# Altium schematic symbol library SamacSys.SchLib: 1281 symbols (part 8 of 13)
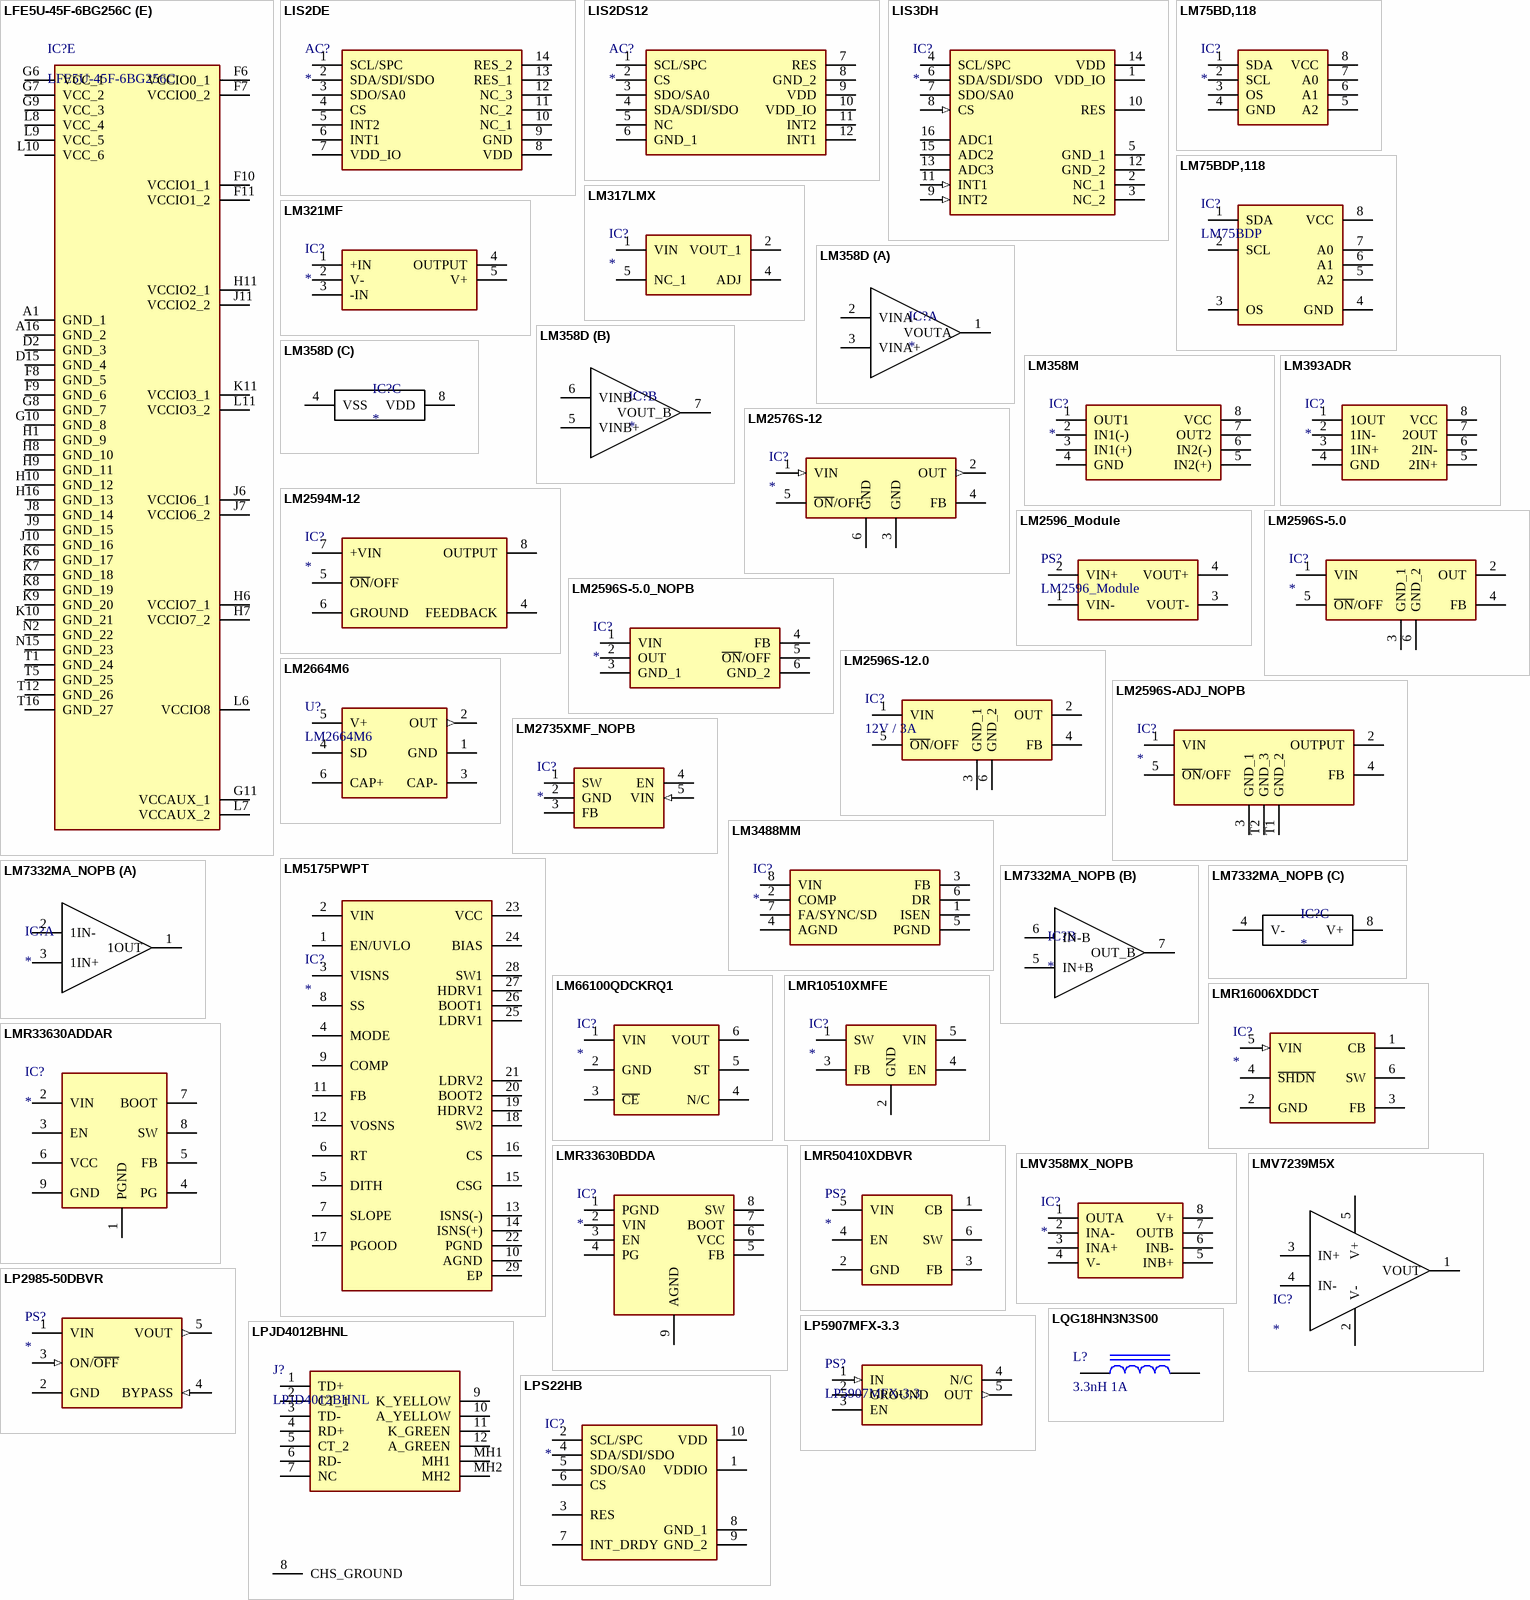
[diagram p54: symbols LFE5U-45F-6BG256C to LQG18HN3N3S00]

## LM75BDP,118
designator IC?, comment LM75BDP
Integrated Circuit; Manufacturer_Name: NXP; Manufacturer_Part_Number: LM75BDP,118; Datasheet Link: http://www.nxp.com/docs/en/data-sheet/LM75B.pdf; Height: 1.1mm; Mouser Part Number: 771-LM75BDP; Mouser Price/Stock: https://www.mouser.co.uk/ProductDetail/NXP-Semiconductors/LM75BDP118?qs=NVaOCIL7CYS15EE%252BCogVfA%3D%3D; Arrow Part Number: LM75BDP,118; Arrow Price/Stock: https://www.arrow.com/en/products/lm75bdp118/nxp-semiconductors?region=nac
footprint SOP65P490X110-8N
pins: 1 SDA, 2 SCL, 3 OS, 4 GND, 5 A2, 6 A1, 7 A0, 8 VCC

## LM317LMX
designator IC?
Integrated Circuit; Manufacturer_Name: onsemi; Manufacturer_Part_Number: LM317LMX; Datasheet Link: https://www.ti.com/lit/ds/symlink/lm317l-n.pdf?HQS=dis-dk-null-digikeymode-dsf-pf-null-wwe&ts=1613971369395; Height: 1.75mm; Mouser Part Number: 512-LM317LMX; Mouser Price/Stock: https://www.mouser.co.uk/ProductDetail/onsemi-Fairchild/LM317LMX?qs=DgZPx0AY41lcVeKBs7y%2FHw%3D%3D; Arrow Part Number: LM317LMX; Arrow Price/Stock: https://www.arrow.com/en/products/lm317lmx/on-semiconductor
footprint SOIC127P600X175-8N; pin to pad 2>2+3+6+7 5>5+8
pins: 1 VIN, 2 VOUT_1, 4 ADJ, 5 NC_1

## LM321MF
designator IC?
Integrated Circuit; Manufacturer_Name: Texas Instruments; Manufacturer_Part_Number: LM321MF/NOPB; Datasheet Link: https://datasheet.datasheetarchive.com/originals/distributors/Datasheets-SFU2/DSASFU100036193.pdf; Height: 1.45mm; Mouser Part Number: 926-LM321MF/NOPB; Mouser Price/Stock: https://www.mouser.co.uk/ProductDetail/Texas-Instruments/LM321MF-NOPB?qs=X1J7HmVL2ZEjaSKPrGsivQ%3D%3D; Arrow Part Number: LM321MF/NOPB; Arrow Price/Stock: https://www.arrow.com/en/products/lm321mfnopb/texas-instruments?region=nac
footprint SOT95P280X145-5N
pins: 1 +IN, 2 V-, 3 -IN, 4 OUTPUT, 5 V+

## LM358D
designator IC?
Integrated Circuit; Manufacturer_Name: Texas Instruments; Manufacturer_Part_Number: LM358D; Datasheet Link: http://www.ti.com/lit/ds/symlink/lm358.pdf; Height: 1.75mm; Mouser Part Number: 595-LM358D; Mouser Price/Stock: https://www.mouser.co.uk/ProductDetail/Texas-Instruments/LM358D?qs=X1HXWTtiZ0RJBM%2FvBfVo8g%3D%3D; Arrow Part Number: LM358D; Arrow Price/Stock: https://www.arrow.com/en/products/lm358d/texas-instruments?region=nac
footprint SOIC127P600X175-8N
part A pins: 1 VOUTA, 2 VINA-, 3 VINA+
part B pins: 5 VINB+, 6 VINB-, 7 VOUT_B
part C pins: 4 VSS, 8 VDD

## LM358M
designator IC?
Integrated Circuit; Manufacturer_Name: onsemi; Manufacturer_Part_Number: LM358M; Datasheet Link: https://www.onsemi.com/pub/Collateral/LM358A-D.pdf; Height: 1.75mm; Mouser Part Number: 512-LM358M; Mouser Price/Stock: https://www.mouser.com/Search/Refine.aspx?Keyword=512-LM358M; Arrow Part Number: LM358M; Arrow Price/Stock: https://www.arrow.com/en/products/lm358m/on-semiconductor
footprint SOIC127P600X175-8N
pins: 1 OUT1, 2 IN1(-), 3 IN1(+), 4 GND, 5 IN2(+), 6 IN2(-), 7 OUT2, 8 VCC

## LM393ADR
designator IC?
Integrated Circuit; Manufacturer_Name: Texas Instruments; Manufacturer_Part_Number: LM393ADR; Datasheet Link: http://www.ti.com/lit/ds/symlink/lm393a.pdf; Height: 1.75mm; Mouser Part Number: 595-LM393ADR; Mouser Price/Stock: https://www.mouser.co.uk/ProductDetail/Texas-Instruments/LM393ADR?qs=VolsR0DjNPq76ZV6Dhd8nQ%3D%3D; Arrow Part Number: LM393ADR; Arrow Price/Stock: https://www.arrow.com/en/products/lm393adr/texas-instruments?utm_currency=USD&region=nac
footprint SOIC127P600X175-8N
pins: 1 1OUT, 2 1IN-, 3 1IN+, 4 GND, 5 2IN+, 6 2IN-, 7 2OUT, 8 VCC

## LM2576S-12
designator IC?
Integrated Circuit; Manufacturer_Name: Texas Instruments; Manufacturer_Part_Number: LM2576S-12/NOPB; Datasheet Link: https://datasheet.datasheetarchive.com/originals/distributors/Datasheets-SFU2/DSASFU100036591.pdf; Height: 4.65mm; Mouser Part Number: 926-LM2576S-12/NOPB; Mouser Price/Stock: https://www.mouser.co.uk/ProductDetail/Texas-Instruments/LM2576S-12-NOPB?qs=X1J7HmVL2ZFNh71Bqi5%2F%2FQ%3D%3D; Arrow Part Number: LM2576S-12/NOPB; Arrow Price/Stock: https://www.arrow.com/en/products/lm2576s-12nopb/texas-instruments?region=nac
footprint TO170P1435X465-6N
pins: 1 VIN (in), 2 OUT (out), 3 GND, 4 FB, 5 ~{ON}/OFF, 6 GND (power)

## LM2594M-12
designator IC?
Integrated Circuit; Manufacturer_Name: Texas Instruments; Manufacturer_Part_Number: LM2594M-12/NOPB; Datasheet Link: https://datasheet.datasheetarchive.com/originals/distributors/Datasheets-SFU2/DSASFU100036599.pdf; Height: 1.75mm; Mouser Part Number: 926-LM2594M-12/NOPB; Mouser Price/Stock: https://www.mouser.co.uk/ProductDetail/Texas-Instruments/LM2594M-12-NOPB?qs=X1J7HmVL2ZHdSH2D3IP2Eg%3D%3D; Arrow Part Number: LM2594M-12/NOPB; Arrow Price/Stock: https://www.arrow.com/en/products/lm2594m-12nopb/texas-instruments?region=nac
footprint SOIC127P600X175-8N
pins: 4 FEEDBACK, 5 ~{ON}/OFF, 6 GROUND, 7 +VIN, 8 OUTPUT

## LM2596_Module
designator PS?
Module, DCDC 3-40V to 1.5-35V, 3A
footprint LM2596 (DC-DC Module, 3A)
pins: 1 VIN-, 2 VIN+, 3 VOUT-, 4 VOUT+

## LM2596S-5.0
designator IC?
Integrated Circuit; Manufacturer_Name: Texas Instruments; Manufacturer_Part_Number: LM2596S-5.0; Datasheet Link: https://www.ti.com/lit/gpn/LM2596; Mouser Part Number: 926-LM2596S-50; Mouser Price/Stock: https://www.mouser.co.uk/ProductDetail/Texas-Instruments/LM2596S-5.0?qs=X1J7HmVL2ZGcOr96VNr%252B%2Fw%3D%3D; Arrow Part Number: LM2596S-5.0; Arrow Price/Stock: https://www.arrow.com/en/products/lm2596s-5.0/texas-instruments?region=nac
footprint TO263-5L
pins: 1 VIN, 2 OUT, 3 GND_1, 4 FB, 5 ~{ON}/OFF, 6 GND_2

## LM2596S-5.0_NOPB
designator IC?
Integrated Circuit; Manufacturer_Name: Texas Instruments; Manufacturer_Part_Number: LM2596S-5.0/NOPB; Datasheet Link: https://www.ti.com/lit/gpn/LM2596; Mouser Part Number: 926-LM2596S-5.0/NOPB; Mouser Price/Stock: https://www.mouser.co.uk/ProductDetail/Texas-Instruments/LM2596S-5.0-NOPB?qs=X1J7HmVL2ZHVjCOmW%252BYINA%3D%3D; Arrow Part Number: LM2596S-5.0/NOPB; Arrow Price/Stock: https://www.arrow.com/en/products/lm2596s-5.0nopb/texas-instruments?region=nac
footprint TO263-5L
pins: 1 VIN, 2 OUT, 3 GND_1, 4 FB, 5 ~{ON}/OFF, 6 GND_2

## LM2596S-12.0
designator IC?, comment 12V / 3A
Integrated Circuit; Manufacturer_Name: Texas Instruments; Manufacturer_Part_Number: LM2596S-5.0; Datasheet Link: https://www.ti.com/lit/gpn/LM2596; Mouser Part Number: 926-LM2596S-50; Mouser Price/Stock: https://www.mouser.co.uk/ProductDetail/Texas-Instruments/LM2596S-5.0?qs=X1J7HmVL2ZGcOr96VNr%252B%2Fw%3D%3D; Arrow Part Number: LM2596S-5.0; Arrow Price/Stock: https://www.arrow.com/en/products/lm2596s-5.0/texas-instruments?region=nac
footprint TO263-5L
pins: 1 VIN, 2 OUT, 3 GND_1, 4 FB, 5 ~{ON}/OFF, 6 GND_2

## LM2596S-ADJ_NOPB
designator IC?
Integrated Circuit; Manufacturer_Name: Texas Instruments; Manufacturer_Part_Number: LM2596S-ADJ/NOPB; Datasheet Link: https://www.ti.com/lit/ds/symlink/lm2596.pdf?HQS=ti-null-null-sf-df-pf-sep-wwe&ts=1592978195629; Height: 4.57mm; Mouser Part Number: 926-LM2596S-ADJ/NOPB; Mouser Price/Stock: https://www.mouser.co.uk/ProductDetail/Texas-Instruments/LM2596S-ADJ-NOPB?qs=X1J7HmVL2ZHoMN0DLDcNog%3D%3D; Arrow Part Number: LM2596S-ADJ/NOPB; Arrow Price/Stock: https://www.arrow.com/en/products/lm2596s-adjnopb/texas-instruments?region=nac
footprint TO263-5L
pins: 1 VIN, 2 OUTPUT, 3 GND_1, 4 FB, 5 ~{ON}/OFF, T1 GND_2, T2 GND_3

## LM2664M6
designator U?
Integrated Circuit; Manufacturer_Name: Texas Instruments; Datasheet Link: http://www.ti.com/lit/ds/symlink/lm2664.pdf; Height: 1.45mm; Manufacturer_Part_Number: LM2664M6; Mouser Part Number: 926-LM2664M6; Mouser Price/Stock: https://www.mouser.co.uk/ProductDetail/Texas-Instruments/LM2664M6?qs=X1J7HmVL2ZFneF3zQ9mdUQ%3D%3D; Arrow Part Number: LM2664M6; Arrow Price/Stock: https://www.arrow.com/en/products/lm2664m6/texas-instruments?region=nac
footprint SOT95P280X145-6N
pins: 1 GND (power), 2 OUT (out), 3 CAP-, 4 SD, 5 V+, 6 CAP+

## LM2735XMF_NOPB
designator IC?
Integrated Circuit; Manufacturer_Name: Texas Instruments; Manufacturer_Part_Number: LM2735XMF/NOPB; Datasheet Link: http://www.ti.com/lit/ds/symlink/lm2735.pdf; Height: 1.45mm; Mouser Part Number: 926-LM2735XMF/NOPB; Mouser Price/Stock: https://www.mouser.co.uk/ProductDetail/Texas-Instruments/LM2735XMF-NOPB?qs=X1J7HmVL2ZGWlm%2F0hOdpKw%3D%3D; Arrow Part Number: LM2735XMF/NOPB; Arrow Price/Stock: https://www.arrow.com/en/products/lm2735xmfnopb/texas-instruments?region=nac
footprint SOT95P280X145-5N
pins: 1 SW, 2 GND (power), 3 FB, 4 EN, 5 VIN (in)

## LM3488MM
designator IC?
Integrated Circuit; Manufacturer_Name: Texas Instruments; Manufacturer_Part_Number: LM3488MM; Datasheet Link: http://www.ti.com/lit/ds/symlink/lm3488.pdf; Height: 1.1mm; Mouser Part Number: 926-LM3488MM; Mouser Price/Stock: https://www.mouser.co.uk/ProductDetail/Texas-Instruments/LM3488MM?qs=X1J7HmVL2ZF99wiIrTysxw%3D%3D; Arrow Part Number: LM3488MM; Arrow Price/Stock: https://www.arrow.com/en/products/lm3488mm/texas-instruments?region=nac
footprint SOP65P490X110-8N
pins: 1 ISEN, 2 COMP, 3 FB, 4 AGND, 5 PGND, 6 DR, 7 FA/SYNC/SD, 8 VIN

## LM5175PWPT
designator IC?
Integrated Circuit; Manufacturer_Name: Texas Instruments; Manufacturer_Part_Number: LM5175PWPT; Datasheet Link: http://www.ti.com/lit/gpn/lm5175; Height: 1.2mm; Mouser Part Number: 595-LM5175PWPT; Mouser Price/Stock: https://www.mouser.co.uk/ProductDetail/Texas-Instruments/LM5175PWPT?qs=mveuKKgDN2gTJmTmD1zLAw%3D%3D; Arrow Part Number: LM5175PWPT; Arrow Price/Stock: https://www.arrow.com/en/products/lm5175pwpt/texas-instruments?utm_currency=USD&region=nac
footprint SOP65P640X120-29N
pins: 1 EN/UVLO, 2 VIN, 3 VISNS, 4 MODE, 5 DITH, 6 RT, 7 SLOPE, 8 SS, 9 COMP, 10 AGND, 11 FB, 12 VOSNS, 13 ISNS(-), 14 ISNS(+), 15 CSG, 16 CS, 17 PGOOD, 18 SW2, 19 HDRV2, 20 BOOT2, 21 LDRV2, 22 PGND, 23 VCC, 24 BIAS, 25 LDRV1, 26 BOOT1, 27 HDRV1, 28 SW1, 29 EP

## LM7332MA_NOPB
designator IC?
IC OPAMP GP 2 CIRCUIT 8SOIC; Manufacturer_Name: Texas Instruments; Manufacturer_Part_Number: LM7332MA/NOPB; Datasheet Link: http://www.ti.com/lit/gpn/lm7332; Height: 1.75mm; Mouser Part Number: 926-LM7332MA/NOPB; Mouser Price/Stock: https://www.mouser.co.uk/ProductDetail/Texas-Instruments/LM7332MA-NOPB?qs=QbsRYf82W3HTYG13NX3OCw%3D%3D; Arrow Part Number: LM7332MA/NOPB; Arrow Price/Stock: https://www.arrow.com/en/products/lm7332manopb/texas-instruments?region=nac
footprint SOIC127P600X175-8N
part A pins: 1 1OUT, 2 1IN-, 3 1IN+
part B pins: 5 IN+B, 6 IN-B, 7 OUT_B
part C pins: 4 V-, 8 V+

## LM66100QDCKRQ1
designator IC?
Integrated Circuit; Manufacturer_Name: Texas Instruments; Manufacturer_Part_Number: LM66100QDCKRQ1; Datasheet Link: https://www.ti.com/lit/ds/symlink/lm66100-q1.pdf?ts=1647247642374&ref_url=www.ti.com; Height: 1.1mm; Mouser Part Number: 595-LM66100QDCKRQ1; Mouser Price/Stock: https://www.mouser.co.uk/ProductDetail/Texas-Instruments/LM66100QDCKRQ1?qs=MyNHzdoqoQIvjdvtKQd0jA%3D%3D; Arrow Part Number: LM66100QDCKRQ1; Arrow Price/Stock: https://www.arrow.com/en/products/lm66100qdckrq1/texas-instruments?utm_currency=USD&region=nac
footprint SOT65P210X110-6N
pins: 1 VIN, 2 GND, 3 ~{CE}, 4 N/C, 5 ST, 6 VOUT

## LMR10510XMFE
designator IC?
Integrated Circuit; Manufacturer_Name: Texas Instruments; Manufacturer_Part_Number: LMR10510XMFE/NOPB; Datasheet Link: http://www.ti.com/lit/gpn/lmr10510; Height: 1.45mm; Mouser Part Number: 926-LMR10510XMFENOPB; Mouser Price/Stock: https://www.mouser.co.uk/ProductDetail/Texas-Instruments/LMR10510XMFE-NOPB?qs=cN01o9PeIQt6Gu2gtl1ODA%3D%3D; Arrow Part Number: LMR10510XMFE/NOPB; Arrow Price/Stock: https://www.arrow.com/en/products/lmr10510xmfenopb/texas-instruments?region=nac
footprint SOT95P280X145-5N
pins: 1 SW, 2 GND, 3 FB, 4 EN, 5 VIN

## LMR16006XDDCT
designator IC?
Integrated Circuit; Manufacturer_Name: Texas Instruments; Manufacturer_Part_Number: LMR16006XDDCT; Datasheet Link: http://www.ti.com/lit/ds/symlink/lmr16006.pdf; Height: 1.1mm; Mouser Part Number: 595-LMR16006XDDCT; Mouser Price/Stock: https://www.mouser.co.uk/ProductDetail/Texas-Instruments/LMR16006XDDCT?qs=1CfNGUMoiQ9XpVkX4RTJzg%3D%3D; Arrow Part Number: LMR16006XDDCT; Arrow Price/Stock: https://www.arrow.com/en/products/lmr16006xddct/texas-instruments?region=nac
footprint SOT95P280X110-6N
pins: 1 CB, 2 GND (power), 3 FB, 4 ~{SHDN}, 5 VIN (in), 6 SW

## LMR33630ADDAR
designator IC?
Integrated Circuit; Manufacturer_Name: Texas Instruments; Manufacturer_Part_Number: LMR33630ADDAR; Datasheet Link: http://www.ti.com/lit/gpn/lmr33630; Height: 1.7mm; Mouser Part Number: 595-LMR33630ADDAR; Mouser Price/Stock: https://www.mouser.co.uk/ProductDetail/Texas-Instruments/LMR33630ADDAR?qs=r5DSvlrkXmJQkBTqgVdiDA%3D%3D; Arrow Part Number: LMR33630ADDAR; Arrow Price/Stock: https://www.arrow.com/en/products/lmr33630addar/texas-instruments?region=nac
footprint SOIC127P600X170-9N
pins: 1 PGND, 2 VIN, 3 EN, 4 PG, 5 FB, 6 VCC, 7 BOOT, 8 SW, 9 GND

## LMR33630BDDA
designator IC?
Integrated Circuit; Manufacturer_Name: Texas Instruments; Manufacturer_Part_Number: LMR33630BDDA; Datasheet Link: http://www.ti.com/lit/gpn/LMR33630; Height: 1.7mm; Mouser Part Number: 595-LMR33630BDDA; Mouser Price/Stock: https://www.mouser.co.uk/ProductDetail/Texas-Instruments/LMR33630BDDA?qs=r5DSvlrkXmJSaC%2FkFkJm9Q%3D%3D; Arrow Part Number: LMR33630BDDA; Arrow Price/Stock: https://www.arrow.com/en/products/lmr33630bdda/texas-instruments
footprint SOIC127P600X170-9N
pins: 1 PGND, 2 VIN, 3 EN, 4 PG, 5 FB, 6 VCC, 7 BOOT, 8 SW, 9 AGND

## LMR50410XDBVR
designator PS?
Power Supply; Manufacturer_Name: Texas Instruments; Manufacturer_Part_Number: LMR50410XDBVR; Datasheet Link: https://www.ti.com/lit/ds/symlink/lmr50410.pdf?ts=1608317161664&ref_url=https%253A%252F%252Fwww.google.com%252F; Height: 1.45mm; Mouser Part Number: 595-LMR50410XDBVR; Mouser Price/Stock: https://www.mouser.co.uk/ProductDetail/Texas-Instruments/LMR50410XDBVR?qs=81r%252BiQLm7BSmpg9WzkckPA%3D%3D; Arrow Part Number: LMR50410XDBVR; Arrow Price/Stock: https://www.arrow.com/en/products/lmr50410xdbvr/texas-instruments?region=nac
footprint SOT95P280X145-6N
pins: 1 CB, 2 GND (power), 3 FB, 4 EN, 5 VIN (power), 6 SW

## LMV358MX_NOPB
designator IC?
Integrated Circuit; Manufacturer_Name: Texas Instruments; Manufacturer_Part_Number: LMV358MX/NOPB; Datasheet Link: http://www.ti.com/lit/gpn/lmv358-n; Height: 1.75mm; Mouser Part Number: 926-LMV358MX/NOPB; Mouser Price/Stock: https://www.mouser.co.uk/ProductDetail/Texas-Instruments/LMV358MX-NOPB?qs=7lkVKPoqpbaZWqXefrgn%2Fg%3D%3D; Arrow Part Number: LMV358MX/NOPB; Arrow Price/Stock: https://www.arrow.com/en/products/lmv358mxnopb/texas-instruments?region=nac
footprint SOIC127P600X175-8N
pins: 1 OUTA, 2 INA-, 3 INA+, 4 V-, 5 INB+, 6 INB-, 7 OUTB, 8 V+

## LMV7239M5X
designator IC?
Integrated Circuit; Manufacturer_Name: Texas Instruments; Manufacturer_Part_Number: LMV7239M5X; Datasheet Link: https://www.ti.com/lit/ds/symlink/lmv7239.pdf?HQS=dis-mous-null-mousermode-dsf-pf-null-wwe&ts=1635839716778&ref_url=https%253A%252F%252Fwww.mouser.in%252F; Height: 1.45mm; Mouser Part Number: 926-LMV7239M5X; Mouser Price/Stock: https://www.mouser.co.uk/ProductDetail/Texas-Instruments/LMV7239M5X?qs=7lkVKPoqpbbyKlw3AVXmDA%3D%3D; Arrow Part Number: LMV7239M5X; Arrow Price/Stock: https://www.arrow.com/en/products/lmv7239m5x/texas-instruments?region=nac
footprint SOT95P280X145-5N
pins: 1 VOUT, 2 V-, 3 IN+, 4 IN-, 5 V+

## LP2985-50DBVR
designator PS?
Power Supply; Manufacturer_Name: Texas Instruments; Manufacturer_Part_Number: LP2985-50DBVR; Datasheet Link: http://www.ti.com/lit/gpn/lp2985; Height: 1.45mm; Mouser Part Number: 595-LP2985-50DBVR; Mouser Price/Stock: https://www.mouser.co.uk/ProductDetail/Texas-Instruments/LP2985-50DBVR?qs=2rshWTB%2FmZw6UIeOIHZ4dA%3D%3D; Arrow Part Number: LP2985-50DBVR; Arrow Price/Stock: https://www.arrow.com/en/products/lp2985-50dbvr/texas-instruments?region=nac
footprint SOT95P280X145-5N
pins: 1 VIN (power), 2 GND (power), 3 ON/~{OFF} (in), 4 BYPASS (in), 5 VOUT (out)

## LP5907MFX-3.3
designator PS?
IC LDO 3.3V; Manufacturer_Name: Texas Instruments; Manufacturer_Part_Number: LP5907MFX-3.3/NOPB; Datasheet Link: http://www.ti.com/lit/gpn/lp5907; Height: 1.45mm
footprint SOT95P280X145-5N
pins: 1 IN (in), 2 GROUND (power), 3 EN, 4 N/C, 5 OUT (out)

## LPJD4012BHNL
designator J?
Connector, RJ-45; Manufacturer_Name: LINK-PP; PN analog 1: Pulse JXD2-9015NL; PN analog 2: Tyco 2301995-3; PN analog 3: Pulse JXD2-0015NL; Datasheet Link: http://www.link-pp.com/?product/201812046463.html; Height: 17.25mm; Manufacturer_Part_Number: LPJD4012BHNL
footprint LPJD4012BHNL
pins: 1 TD+, 2 CT_1, 3 TD-, 4 RD+, 5 CT_2, 6 RD-, 7 NC, 8 CHS_GROUND, 9 K_YELLOW, 10 A_YELLOW, 11 K_GREEN, 12 A_GREEN, MH1, MH2

## LPS22HB
designator IC?
Integrated Circuit, MEMS nano pressure sensor, 260-1260 hPa; Manufacturer_Name: ST; Manufacturer_Part_Number: LPS22HB; Datasheet Link: https://www.st.com/resource/en/datasheet/lps22hb.pdf; Height: 1.01mm
footprint LPS22HBTR
pins: 1 VDDIO, 2 SCL/SPC, 3 RES, 4 SDA/SDI/SDO, 5 SDO/SA0, 6 CS, 7 INT_DRDY, 8 GND_1, 9 GND_2, 10 VDD

## LQG18HN3N3S00
designator L?, comment 3.3nH 1A
FIXED IND 3.3NH 1A 0.12OHM SMD; Manufacturer_Name: Murata Electronics; Manufacturer_Part_Number: LQG18HN3N3S00; Datasheet Link: https://psearch.en.murata.com/inductor/product/LQH43MN150K03%23.html; Height: 1mm; Value: 3.3nH 1A
footprint LQM18PH1R0MFRL
pins: 1, 2

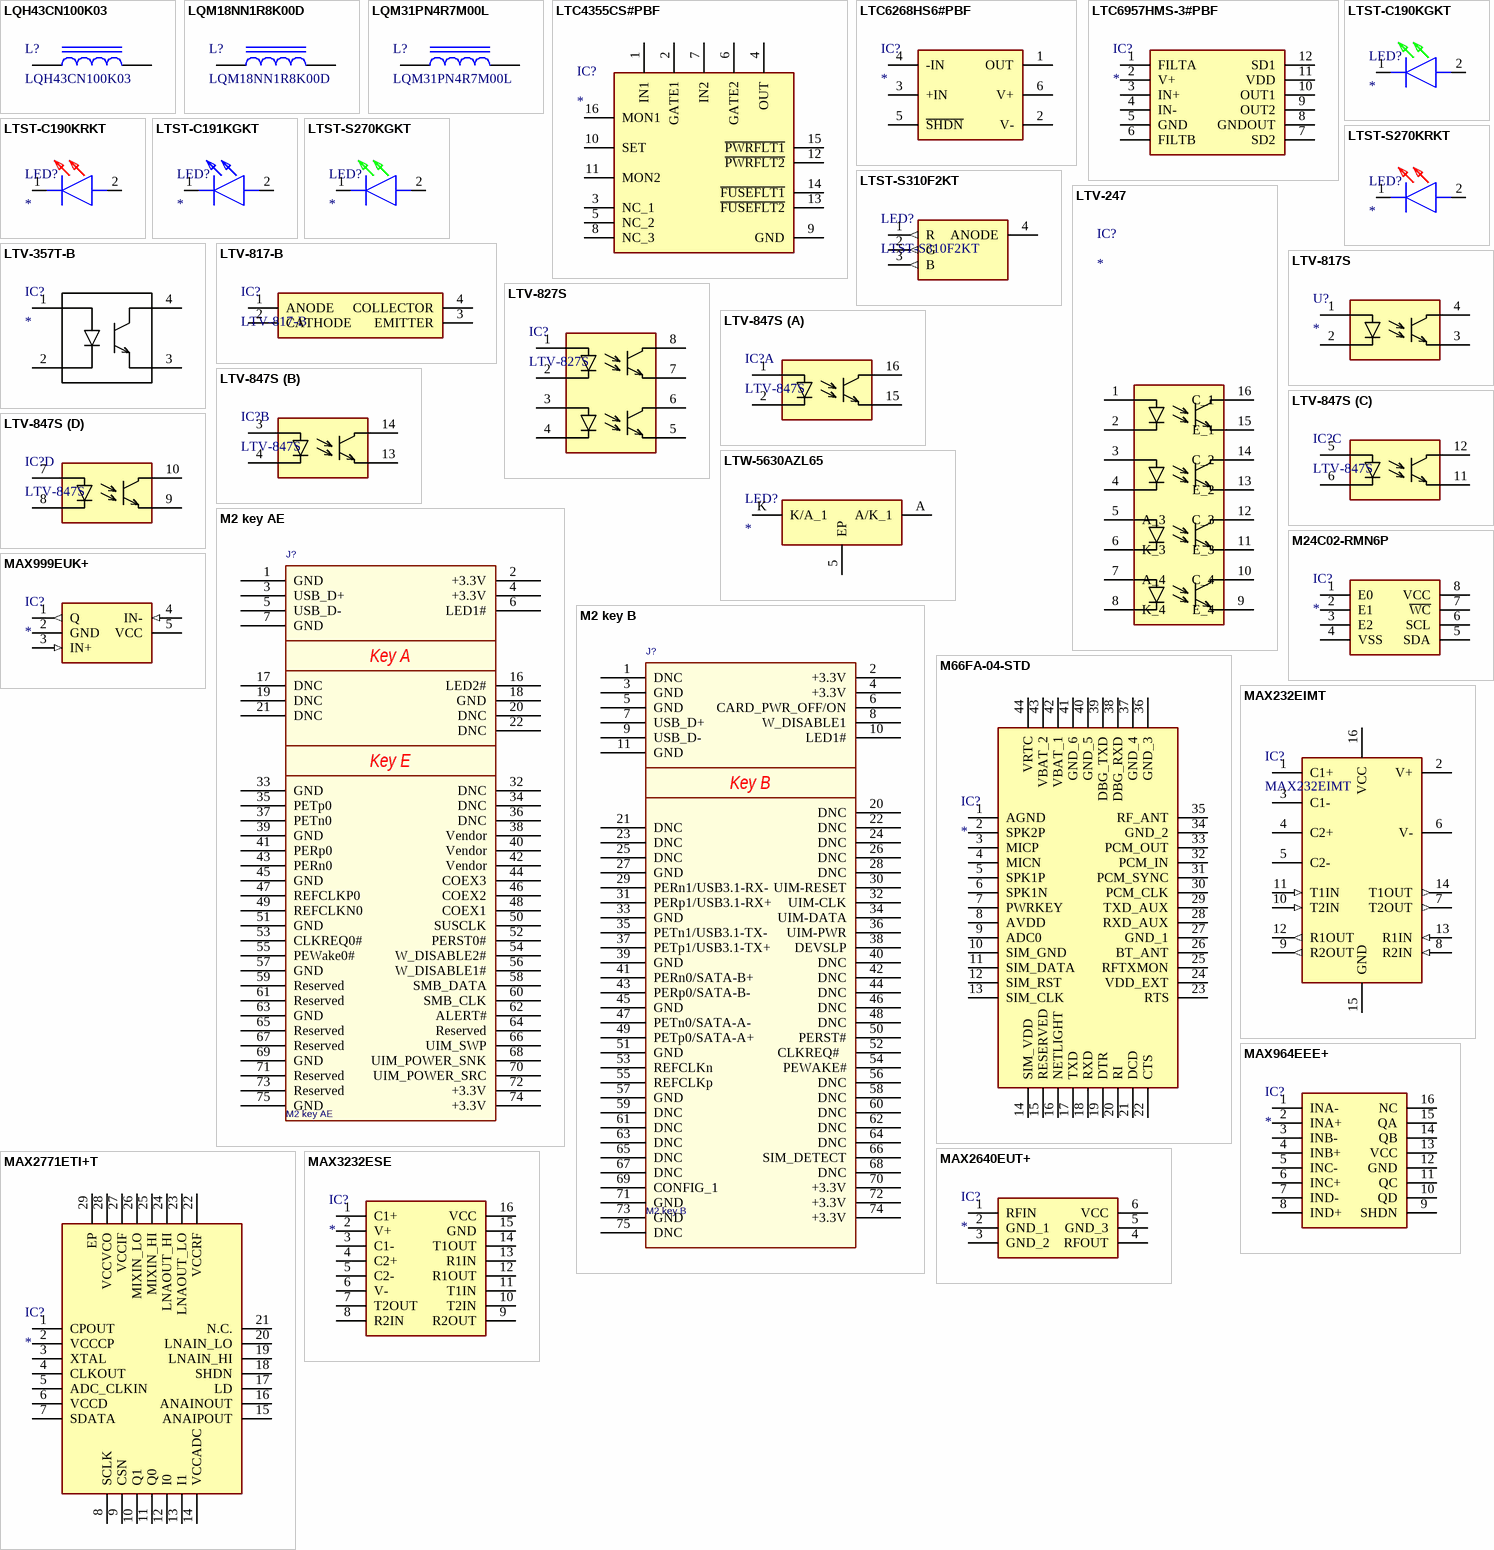
[diagram p26: symbols LQH43CN100K03 to MAX3232ESE]

## LQH43CN100K03
designator L?
Inductor; Manufacturer_Name: Murata Electronics; Manufacturer_Part_Number: LQH43MN150K03L; Datasheet Link: https://psearch.en.murata.com/inductor/product/LQH43MN150K03%23.html; Height: 2.8mm; Mouser Part Number: 81-LQH43MN150K03L; Mouser Price/Stock: https://www.mouser.co.uk/ProductDetail/Murata-Electronics/LQH43MN150K03L?qs=OJhuTyneA2xAz1%2FPbzfTmQ%3D%3D; Arrow Part Number: LQH43MN150K03L; Arrow Price/Stock: https://www.arrow.com/en/products/lqh43mn150k03l/murata-manufacturing
footprint LQH43; pin to pad 1>1+3 2>2+4
pins: 1, 2

## LQM18NN1R8K00D
designator L?
FIXED IND 1.8UH 25MA 950 MOHM; Manufacturer_Name: Murata Electronics; Datasheet Link: https://psearch.en.murata.com/inductor/product/LQH43MN150K03%23.html; Height: 2.8mm; Manufacturer_Part_Number: LQM18NN1R8K00D; Mouser Part Number: LQM18NN1R8K00D; Mouser Price/Stock: https://www.mouser.co.uk/ProductDetail/Murata-Electronics/LQH43MN150K03L?qs=OJhuTyneA2xAz1%2FPbzfTmQ%3D%3D; Arrow Part Number: LQH43MN150K03L; Arrow Price/Stock: https://www.arrow.com/en/products/lqh43mn150k03l/murata-manufacturing
footprint LQM18PH1R0MFRL; pin to pad 1>1+3 2>2+4
pins: 1, 2

## LQM31PN4R7M00L
designator L?
Inductor; Manufacturer_Name: Murata Electronics; Datasheet Link: https://psearch.en.murata.com/inductor/product/LQH43MN150K03%23.html; Height: 2.8mm; Manufacturer_Part_Number: LQM31PN4R7M00L; Mouser Part Number: 81-LQH43MN150K03L; Mouser Price/Stock: https://www.mouser.co.uk/ProductDetail/Murata-Electronics/LQH43MN150K03L?qs=OJhuTyneA2xAz1%2FPbzfTmQ%3D%3D; Arrow Part Number: LQH43MN150K03L; Arrow Price/Stock: https://www.arrow.com/en/products/lqh43mn150k03l/murata-manufacturing
footprint LQM31; pin to pad 1>1+3 2>2+4
pins: 1, 2

## LTC4355CS#PBF
designator IC?
Integrated Circuit; Manufacturer_Name: Analog Devices; Manufacturer_Part_Number: LTC4355CS#PBF; Datasheet Link: http://www.analog.com/media/en/technical-documentation/data-sheets/4355ff.pdf; Height: 1.752mm; Mouser Part Number: 584-LTC4355CS#PBF; Mouser Price/Stock: https://www.mouser.co.uk/ProductDetail/Analog-Devices/LTC4355CSPBF?qs=hVkxg5c3xu8RFGMIBsfs0A%3D%3D; Arrow Part Number: LTC4355CS#PBF; Arrow Price/Stock: http://www.arrow.com/en/products/ltc4355cspbf/linear-technology
footprint SOIC127P600X175-16N
pins: 1 IN1, 2 GATE1, 3 NC_1, 4 OUT, 5 NC_2, 6 GATE2, 7 IN2, 8 NC_3, 9 GND, 10 SET, 11 MON2, 12 ~{PWRFLT2}, 13 ~{FUSEFLT2}, 14 ~{FUSEFLT1}, 15 ~{PWRFLT1}, 16 MON1

## LTC6268HS6#PBF
designator IC?
Integrated Circuit; Manufacturer_Name: Linear Technology; Manufacturer_Part_Number: LTC6268HS6#PBF; Datasheet Link: https://www.google.com/url?sa=t&rct=j&q=&esrc=s&source=web&cd=&cad=rja&uact=8&ved=2ahUKEwiYlKTx08fsAhXFzYUKHV6PDhYQFjACegQIAxAC&url=https%3A%2F%2Fwww.analog.com%2Fmedia%2Fen%2Ftechnical-documentation%2Fdata-sheets%2F62689f.pdf&usg=AOvVaw1aq7GCpqknNCJPeWui; Height: 1mm
footprint SOT95P280X100-6N
pins: 1 OUT, 2 V-, 3 +IN, 4 -IN, 5 ~{SHDN}, 6 V+

## LTC6957HMS-3#PBF
designator IC?
Integrated Circuit; Manufacturer_Name: Analog Devices; Manufacturer_Part_Number: LTC6957HMS-3#PBF; Datasheet Link: http://cds.linear.com/docs/jp/datasheet/j6957f.pdf; Height: 1.1mm; Mouser Part Number: 584-LTC6957HMS-3#PBF; Mouser Price/Stock: https://www.mouser.co.uk/ProductDetail/Analog-Devices/LTC6957HMS-3PBF?qs=hVkxg5c3xu%252BueaB9qRVCXQ%3D%3D; Arrow Part Number: LTC6957HMS-3#PBF; Arrow Price/Stock: https://www.arrow.com/en/products/ltc6957hms-3pbf/analog-devices?utm_currency=USD&region=nac
footprint SOP65P490X110-12N
pins: 1 FILTA, 2 V+, 3 IN+, 4 IN-, 5 GND, 6 FILTB, 7 SD2, 8 GNDOUT, 9 OUT2, 10 OUT1, 11 VDD, 12 SD1

## LTST-C190KGKT
designator LED?
LED, 0603, GREEN; Manufacturer_Name: Lite-On; Manufacturer_Part_Number: LTST-C190KGKT; Datasheet Link: http://uk.rs-online.com/web/p/visible-leds/6920988/; Height: 0.8mm; Mouser Part Number: 859-LTST-C190KGKT; Mouser Price/Stock: https://www.mouser.co.uk/ProductDetail/Lite-On/LTST-C190KGKT?qs=205qCy6M2Q%252BAdcgwUZktqw%3D%3D; Arrow Part Number: LTST-C190KGKT; Arrow Price/Stock: https://www.arrow.com/en/products/ltst-c190kgkt/lite-on-technology?region=europe
footprint LEDC1608X80N
pins: 1 K, 2 A

## LTST-C190KRKT
designator LED?
LED, 0603, RED; Manufacturer_Name: Lite-On; Manufacturer_Part_Number: LTST-C190KRKT; Datasheet Link: https://componentsearchengine.com/Datasheets/1/LTST-C190KRKT.pdf; Height: 0.8mm; Mouser Part Number: 859-LTST-C190KRKT; Mouser Price/Stock: https://www.mouser.co.uk/ProductDetail/Lite-On/LTST-C190KRKT?qs=kAD5fFa1n5VY3YYNWPC1Fg%3D%3D; Arrow Part Number: LTST-C190KRKT; Arrow Price/Stock: https://www.arrow.com/en/products/ltst-c190krkt/lite-on-technology?region=europe
footprint LEDC1608X80N
pins: 1 K, 2 A

## LTST-C191KGKT
designator LED?
LED; Manufacturer_Name: Lite-On; Manufacturer_Part_Number: LTST-C191KGKT; Datasheet Link: http://www.mouser.com/ds/2/239/S_110_LTST-C191KGKT-369560.pdf; Height: 0.55mm; Mouser Part Number: 859-LTST-C191KGKT; Mouser Price/Stock: https://www.mouser.co.uk/ProductDetail/Lite-On/LTST-C191KGKT?qs=xSPZu9B1aMCRQ5ACasEYAg%3D%3D; Arrow Part Number: LTST-C191KGKT; Arrow Price/Stock: https://www.arrow.com/en/products/ltst-c191kgkt/lite-on-technology?region=nac
footprint LEDC1608X55N
pins: 1 K, 2 A

## LTST-S270KGKT
designator LED?
LED, 0603 SIDE, GREEN; Manufacturer_Name: Lite-On; Manufacturer_Part_Number: LTST-S270KGKT; Datasheet Link: https://optoelectronics.liteon.com/upload/download/DS22-2000-226/LTST-S270KGKT.pdf; Height: 0.7mm; Mouser Part Number: 859-LTST-S270KGKT; Mouser Price/Stock: https://www.mouser.co.uk/ProductDetail/Lite-On/LTST-S270KGKT?qs=oL5uk4n%2FG821%2FMiCU6RADg%3D%3D; Arrow Part Number: LTST-S270KGKT; Arrow Price/Stock: https://www.arrow.com/en/products/ltst-s270kgkt/lite-on-technology?region=nac
footprint LTSTS270KGKT
pins: 1 K, 2 A

## LTST-S270KRKT
designator LED?
LED, 0603 SIDE, RED; Manufacturer_Name: Lite-On; Manufacturer_Part_Number: LTST-S270KRKT; Datasheet Link: https://optoelectronics.liteon.com/upload/download/DS22-2000-210/LTST-S270KRKT.pdf; Height: 1mm; Mouser Part Number: 859-LTST-S270KRKT; Mouser Price/Stock: https://www.mouser.co.uk/ProductDetail/Lite-On/LTST-S270KRKT?qs=NUb82WqeCyrkrhATBGeB1A%3D%3D; Arrow Part Number: LTST-S270KRKT; Arrow Price/Stock: https://www.arrow.com/en/products/ltst-s270krkt/lite-on-technology?region=nac
footprint LTSTS270KRKT
pins: 1 K, 2 A

## LTST-S310F2KT
designator LED?
LED (Multiple), RGB; Manufacturer_Name: Lite-On; Datasheet Link: https://www.lcsc.com/datasheet/lcsc_datasheet_2410121713_Lite-On-LTST-S310F2KT_C284950.pdf; Manufacturer_Part_Number: LTST-S310F2KT
footprint LTST-310F2KT
pins: 1 R (out), 2 G (out), 3 B (out), 4 ANODE (power)

## LTV-247
designator IC?
Integrated Circuit; Manufacturer_Name: Lite-On; Manufacturer_Part_Number: LTV-247; Datasheet Link: http://optoelectronics.liteon.com/upload/download/DS70-2009-0014/LTV-2X7%20sereis%20Mar17.PDF; Mouser Part Number: 859-LTV-247; Mouser Price/Stock: https://www.mouser.co.uk/ProductDetail/Lite-On/LTV-247?qs=9ayhpukWNmvWpoxQBzWkFA%3D%3D; Arrow Part Number: LTV-247; Arrow Price/Stock: https://www.arrow.com/en/products/ltv-247/lite-on-technology?region=europe
footprint LTV247
pins: 1 A_1, 2 K_1, 3 A_2, 4 K_2, 5 A_3, 6 K_3, 7 A_4, 8 K_4, 9 E_4, 10 C_4, 11 E_3, 12 C_3, 13 E_2, 14 C_2, 15 E_1, 16 C_1

## LTV-357T-B
designator IC?
Optoisolator; Manufacturer_Name: Lite-On; Manufacturer_Part_Number: LTV-357T-B; Datasheet Link: https://media.digikey.com/pdf/Data%20Sheets/Lite-On%20PDFs/LTV-357T_8-5-13.pdf; Height: 2.4mm; Mouser Part Number: 859-LTV-357T-B; Mouser Price/Stock: https://www.mouser.co.uk/ProductDetail/Lite-On/LTV-357T-B?qs=5Clb0NIqk7EQ3dlDnldn0w%3D%3D; Arrow Part Number: LTV-357T-B; Arrow Price/Stock: https://www.arrow.com/en/products/ltv-357t-b/lite-on-technology?region=nac
footprint SOP254P675X240-4N
pins: 1 ANODE, 2 CATHODE, 3 EMITTER, 4 COLLECTOR

## LTV-817-B
designator IC?
Optoisolator; Manufacturer_Name: Lite-On; Datasheet Link: https://www.mouser.mx/datasheet/2/239/LTV-8X7_series_201610_-1544776.pdf; Height: 4.6mm; Manufacturer_Part_Number: LTV-817-B
footprint DIP762W60P254L458H400Q4N
pins: 1 ANODE, 2 CATHODE, 3 EMITTER, 4 COLLECTOR

## LTV-817S
designator U?
Undefined or Miscellaneous; Manufacturer_Name: Lite-On; Manufacturer_Part_Number: LTV-817S; Datasheet Link: http://optoelectronics.liteon.com/upload/download/DS-70-96-0016/LTV-8X7%20series%20201610%20.pdf; Height: 4.6mm; Mouser Part Number: 859-LTV-817S; Mouser Price/Stock: https://www.mouser.co.uk/ProductDetail/Lite-On/LTV-817S?qs=XpF7qU%252BvLkWYeWEC0OckNQ%3D%3D; Arrow Part Number: LTV-817S; Arrow Price/Stock: https://www.arrow.com/en/products/ltv-817s/lite-on-technology?utm_currency=USD&region=nac
footprint SOP254P1016X460-4N (Footprint not found)
pins: 1 A, 2 K, 3 E, 4 C

## LTV-827S
designator IC?
Optoisolator; Manufacturer_Name: Lite-On; Datasheet Link: https://www.mouser.mx/datasheet/2/239/LTV-8X7_series_201610_-1544776.pdf; Height: 4.6mm; Manufacturer_Part_Number: LTV-827S; Mouser Part Number: 859-LTV-827S; Mouser Price/Stock: https://www.mouser.co.uk/ProductDetail/Lite-On/LTV-827S?qs=5m%252ByTwlvhMUJgq90MY9meQ%3D%3D; Arrow Part Number: LTV-827S; Arrow Price/Stock: https://www.arrow.com/en/products/ltv-827s/lite-on-technology?region=nac
footprint SOP254P1016X460-8N
pins: 1 A_1, 2 K_1, 3 A_2, 4 K_2, 5 E_1, 6 C_1, 7 E_2, 8 C_2

## LTV-847S
designator IC?
Optoisolator; Manufacturer_Name: Lite-On; Manufacturer_Part_Number: LTV847S; Datasheet Link: https://www.mouser.pe/datasheet/2/239/LTV-8X7_series_201610_-1544776.pdf; Height: 4.6mm
footprint LTV846S
part A pins: 1 A_1, 2 K_1, 15 E_4, 16 C_4
part B pins: 3 A_2, 4 K_2, 13 E_3, 14 C_3
part C pins: 5 A_3, 6 K_3, 11 E_2, 12 C_2
part D pins: 7 A_4, 8 K_4, 9 E_1, 10 C_1

## LTW-5630AZL65
designator LED?
LED; Manufacturer_Name: Lite-On; Manufacturer_Part_Number: LTW-5630AZL65; Datasheet Link: https://www.mouser.de/datasheet/2/239/LTW_5630AZL_Series_Data_Sheet_20140606-555562.pdf; Height: 1.1mm; Mouser Part Number: 859-LTW5630AZL65; Mouser Price/Stock: https://www.mouser.co.uk/ProductDetail/Lite-On/LTW-5630AZL65?qs=U5SWHfT1b2m8jPp1rie%2FqA%3D%3D; Arrow Part Number: LTW-5630AZL65; Arrow Price/Stock: https://www.arrow.com/en/products/ltw-5630azl65/lite-on-technology
footprint LTW5630AZL65; pin to pad A>2+A2 K>1+A1
pins: 5 EP, A A/K_1, K K/A_1

## M2 key AE
designator J?  (no BOM)
Edge Connector; Published: 08-Feb-2008; MountType: SMT
footprint M2-2230-AE (UNTESTED m.2 2230 type E)
pins: 1 GND, 2 +3.3V, 3 USB_D+  , 4 +3.3V, 5 USB_D-, 6 LED1#, 7 GND, 16 LED2#, 17 DNC, 18 GND, 19 DNC, 20 DNC, 21 DNC, 22 DNC, 32 DNC, 33 GND, 34 DNC, 35 PETp0, 36 DNC, 37 PETn0, 38 Vendor, 39 GND, 40 Vendor, 41 PERp0, 42 Vendor, 43 PERn0, 44 COEX3, 45 GND, 46 COEX2, 47 REFCLKP0, 48 COEX1, 49 REFCLKN0, 50 SUSCLK, 51 GND, 52 PERST0#, 53 CLKREQ0#  , 54 W_DISABLE2#, 55 PEWake0#, 56 W_DISABLE1#, 57 GND, 58 SMB_DATA, 59 Reserved, 60 SMB_CLK, 61 Reserved, 62 ALERT#, 63 GND, 64 Reserved, 65 Reserved, 66 UIM_SWP, 67 Reserved, 68 UIM_POWER_SNK, 69 GND, 70 UIM_POWER_SRC, 71 Reserved, 72 +3.3V, 73 Reserved, 74 +3.3V, 75 GND
text: Key A; Key E

## M2 key B
designator J?  (no BOM)
Edge Connector, note full m2 pinout; Published: 08-Feb-2008; MountType: SMT
footprint M2-2280-B (m.2 2280 type B)
pins: 1 DNC, 2 +3.3V, 3 GND, 4 +3.3V, 5 GND, 6 CARD_PWR_OFF/ON, 7 USB_D+  , 8 W_DISABLE1, 9 USB_D-, 10 LED1#, 11 GND, 20 DNC, 21 DNC, 22 DNC, 23 DNC, 24 DNC, 25 DNC, 26 DNC, 27 GND, 28 DNC, 29 PERn1/USB3.1-RX-, 30 UIM-RESET, 31 PERp1/USB3.1-RX+, 32 UIM-CLK, 33 GND, 34 UIM-DATA, 35 PETn1/USB3.1-TX-, 36 UIM-PWR, 37 PETp1/USB3.1-TX+, 38 DEVSLP, 39 GND, 40 DNC, 41 PERn0/SATA-B+, 42 DNC, 43 PERp0/SATA-B-, 44 DNC, 45 GND, 46 DNC, 47 PETn0/SATA-A-, 48 DNC, 49 PETp0/SATA-A+, 50 PERST#, 51 GND, 52 CLKREQ#  , 53 REFCLKn, 54 PEWAKE#, 55 REFCLKp, 56 DNC, 57 GND, 58 DNC, 59 DNC, 60 DNC, 61 DNC, 62 DNC, 63 DNC, 64 DNC, 65 DNC, 66 SIM_DETECT, 67 DNC, 68 DNC, 69 CONFIG_1, 70 +3.3V, 71 GND, 72 +3.3V, 73 GND, 74 +3.3V, 75 DNC
text: Key B

## M24C02-RMN6P
designator IC?
Integrated Circuit; Manufacturer_Name: STMicroelectronics; Manufacturer_Part_Number: M24C02-RMN6P; Datasheet Link: http://www.st.com/st-web-ui/static/active/en/resource/technical/document/datasheet/DM00071904.pdf; Height: 1.75mm; Mouser Part Number: 511-M24C02-RMN6P; Mouser Price/Stock: https://www.mouser.co.uk/ProductDetail/STMicroelectronics/M24C02-RMN6P?qs=Au9%252BK7QVGzXd5M2vTlbyeA%3D%3D; Arrow Part Number: M24C02-RMN6P; Arrow Price/Stock: https://www.arrow.com/en/products/m24c02-rmn6p/stmicroelectronics
footprint SOIC127P600X175-8N
pins: 1 E0, 2 E1, 3 E2, 4 VSS, 5 SDA, 6 SCL, 7 ~{WC}, 8 VCC

## M66FA-04-STD
designator IC?
Integrated Circuit; Manufacturer_Name: Quectel; Manufacturer_Part_Number: M66FA-04-STD; Height: 2mm; Mouser Part Number: 277-M66FA-04-STD; Mouser Price/Stock: https://www.mouser.co.uk/ProductDetail/Quectel/M66FA-04-STD?qs=GedFDFLaBXFZPRb0XSkrFQ%3D%3D
footprint M66FA04STD
pins: 1 AGND, 2 SPK2P, 3 MICP, 4 MICN, 5 SPK1P, 6 SPK1N, 7 PWRKEY, 8 AVDD, 9 ADC0, 10 SIM_GND, 11 SIM_DATA, 12 SIM_RST, 13 SIM_CLK, 14 SIM_VDD, 15 RESERVED, 16 NETLIGHT, 17 TXD, 18 RXD, 19 DTR, 20 RI, 21 DCD, 22 CTS, 23 RTS, 24 VDD_EXT, 25 RFTXMON, 26 BT_ANT, 27 GND_1, 28 RXD_AUX, 29 TXD_AUX, 30 PCM_CLK, 31 PCM_SYNC, 32 PCM_IN, 33 PCM_OUT, 34 GND_2, 35 RF_ANT, 36 GND_3, 37 GND_4, 38 DBG_RXD, 39 DBG_TXD, 40 GND_5, 41 GND_6, 42 VBAT_1, 43 VBAT_2, 44 VRTC

## MAX232EIMT
designator IC?
Integrated Circuit, RS-232; Manufacturer_Name: HGSEMI; Manufacturer_Part_Number: MAX232EIMT/TR; Datasheet Link: https://www.lcsc.com/datasheet/lcsc_datasheet_2406061555_HGSEMI-MAX232EIMT-TR_C5310855.pdf; Height: 0.95; LCSC #: C5310855
footprint SOIC127P1032X265-16N
pins: 1 C1+, 2 V+, 3 C1-, 4 C2+, 5 C2-, 6 V-, 7 T2OUT (out), 8 R2IN (in), 9 R2OUT (out), 10 T2IN (in), 11 T1IN (in), 12 R1OUT (out), 13 R1IN (in), 14 T1OUT (out), 15 GND, 16 VCC

## MAX964EEE+
designator IC?
Integrated Circuit; Manufacturer_Name: Analog Devices; Manufacturer_Part_Number: MAX964EEE+; Datasheet Link: https://componentsearchengine.com/Datasheets/1/MAX964EEE+.pdf; Height: 1.75mm; Mouser Part Number: 700-MAX964EEE; Mouser Price/Stock: https://www.mouser.co.uk/ProductDetail/Maxim-Integrated/MAX964EEE%2b?qs=1THa7WoU59FmiHSQ7CaYFQ%3D%3D; Arrow Part Number: MAX964EEE+; Arrow Price/Stock: https://www.arrow.com/en/products/max964eee/maxim-integrated?region=nac
footprint SOP64P602X175-16N
pins: 1 INA-, 2 INA+, 3 INB-, 4 INB+, 5 INC-, 6 INC+, 7 IND-, 8 IND+, 9 SHDN, 10 QD, 11 QC, 12 GND, 13 VCC, 14 QB, 15 QA, 16 NC

## MAX999EUK+
designator IC?
Integrated Circuit; Manufacturer_Name: Analog Devices; Manufacturer_Part_Number: MAX999EUK+; Datasheet Link: http://datasheets.maximintegrated.com/en/ds/MAX961-MAX999.pdf; Height: 1.45mm
footprint SOT95P280X145-5N
pins: 1 Q (out), 2 GND (power), 3 IN+ (in), 4 IN- (in), 5 VCC (power)

## MAX2640EUT+
designator IC?
Integrated Circuit; Manufacturer_Name: Maxim Integrated; Manufacturer_Part_Number: MAX2640EUT+; Datasheet Link: http://datasheets.maximintegrated.com/en/ds/MAX2640-MAX2641.pdf; Height: 1.45mm; Mouser Part Number: 700-MAX2640EUT+; Mouser Price/Stock: https://www.mouser.co.uk/ProductDetail/Maxim-Integrated/MAX2640EUT%2b?qs=hoqcozD0wPTIrSZwzw63%252Bg%3D%3D
footprint SOT95P280X145-6N
pins: 1 RFIN, 2 GND_1, 3 GND_2, 4 RFOUT, 5 GND_3, 6 VCC

## MAX2771ETI+T
designator IC?
Integrated Circuit; Manufacturer_Name: Analog Devices; Manufacturer_Part_Number: MAX2771ETI+T; Datasheet Link: https://datasheets.maximintegrated.com/en/ds/MAX2771.pdf; Height: 0.8mm; Mouser Part Number: 700-MAX2771ETI+T; Mouser Price/Stock: https://www.mouser.co.uk/ProductDetail/Maxim-Integrated/MAX2771ETI%2bT?qs=byeeYqUIh0PS0WKqwMEIXA%3D%3D
footprint QFN50P500X500X80-29N
pins: 1 CPOUT, 2 VCCCP, 3 XTAL, 4 CLKOUT, 5 ADC_CLKIN, 6 VCCD, 7 SDATA, 8 SCLK, 9 CSN, 10 Q1, 11 Q0, 12 I0, 13 I1, 14 VCCADC, 15 ANAIPOUT, 16 ANAINOUT, 17 LD, 18 SHDN, 19 LNAIN_HI, 20 LNAIN_LO, 21 N.C., 22 VCCRF, 23 LNAOUT_LO, 24 LNAOUT_HI, 25 MIXIN_HI, 26 MIXIN_LO, 27 VCCIF, 28 VCCVCO, 29 EP

## MAX3232ESE
designator IC?
Integrated Circuit; Manufacturer_Name: Analog Devices; Manufacturer_Part_Number: MAX3232ESE; Datasheet Link: https://datasheets.maximintegrated.com/en/ds/MAX3222-MAX3241.pdf; Height: 1.75mm; Mouser Part Number: N/A; Mouser Price/Stock: https://www.mouser.co.uk/ProductDetail/Maxim-Integrated/MAX3232ESE?qs=ZENAYvsrzLoznpazQOaG5Q%3D%3D
footprint SOIC127P600X175-16N (Footprint not found)
pins: 1 C1+, 2 V+, 3 C1-, 4 C2+, 5 C2-, 6 V-, 7 T2OUT, 8 R2IN, 9 R2OUT, 10 T2IN, 11 T1IN, 12 R1OUT, 13 R1IN, 14 T1OUT, 15 GND, 16 VCC

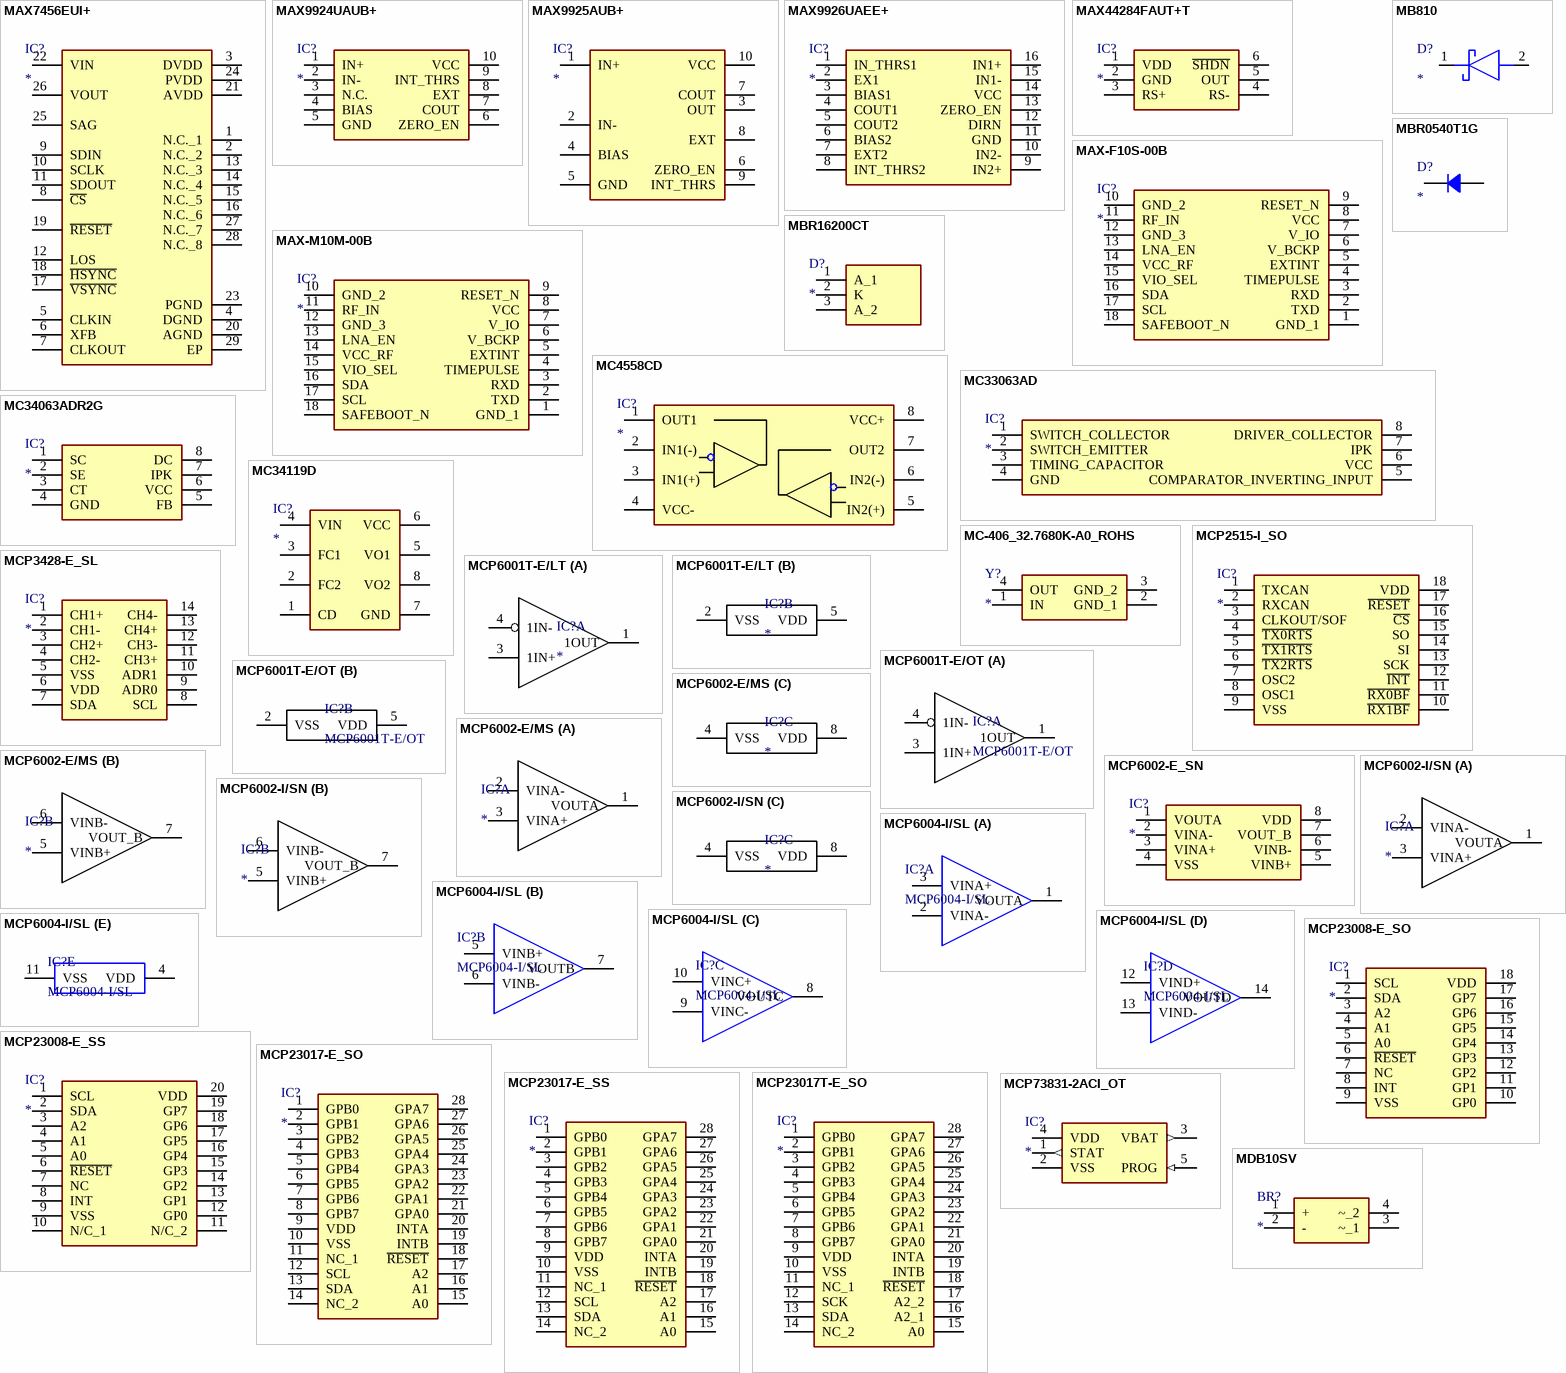
[diagram p27: symbols MAX7456EUI+ to MDB10SV]

## MAX7456EUI+
designator IC?
Integrated Circuit; Manufacturer_Name: Analog Devices; Manufacturer_Part_Number: MAX7456EUI+; Datasheet Link: http://uk.rs-online.com/web/p/products/7326970; Height: 1.1mm; Mouser Part Number: 700-MAX7456EUI; Mouser Price/Stock: https://www.mouser.co.uk/ProductDetail/Analog-Devices-Maxim-Integrated/MAX7456EUI%2b?qs=1THa7WoU59EGj4X9409NRQ%3D%3D
footprint SOP65P638X110-29N
pins: 1 N.C._1, 2 N.C._2, 3 DVDD, 4 DGND, 5 CLKIN, 6 XFB, 7 CLKOUT, 8 ~{CS}, 9 SDIN, 10 SCLK, 11 SDOUT, 12 LOS, 13 N.C._3, 14 N.C._4, 15 N.C._5, 16 N.C._6, 17 ~{VSYNC}, 18 ~{HSYNC}, 19 ~{RESET}, 20 AGND, 21 AVDD, 22 VIN, 23 PGND, 24 PVDD, 25 SAG, 26 VOUT, 27 N.C._7, 28 N.C._8, 29 EP

## MAX9924UAUB+
designator IC?
Integrated Circuit; Manufacturer_Name: Analog Devices; Manufacturer_Part_Number: MAX9924UAUB+; Datasheet Link: https://datasheets.maximintegrated.com/en/ds/MAX9924-MAX9927.pdf; Height: 1.1mm; Mouser Part Number: 700-MAX9924UAUB; Mouser Price/Stock: https://www.mouser.co.uk/ProductDetail/Analog-Devices-Maxim-Integrated/MAX9924UAUB%2b?qs=CDqwynd4ZNp%2Fw00%252BzYUiZw%3D%3D; Arrow Part Number: MAX9924UAUB+; Arrow Price/Stock: https://www.arrow.com/en/products/max9924uaub/maxim-integrated?region=nac
footprint SOP50P490X110-10N
pins: 1 IN+, 2 IN-, 3 N.C., 4 BIAS, 5 GND, 6 ZERO_EN, 7 COUT, 8 EXT, 9 INT_THRS, 10 VCC

## MAX9925AUB+
designator IC?
Integrated Circuit; Manufacturer_Name: Analog Devices; Manufacturer_Part_Number: MAX9925AUB+; Datasheet Link: https://datasheets.maximintegrated.com/en/ds/MAX9924-MAX9927.pdf; Height: 1.1mm; Mouser Part Number: 700-MAX9925AUB; Mouser Price/Stock: https://www.mouser.co.uk/ProductDetail/Analog-Devices-Maxim-Integrated/MAX9925AUB%2b?qs=CDqwynd4ZNqndgGFvdbpcg%3D%3D
footprint SOP50P490X110-10N
pins: 1 IN+, 2 IN-, 3 OUT, 4 BIAS, 5 GND, 6 ZERO_EN, 7 COUT, 8 EXT, 9 INT_THRS, 10 VCC

## MAX9926UAEE+
designator IC?
Integrated Circuit; Manufacturer_Name: Analog Devices; Manufacturer_Part_Number: MAX9926UAEE+; Datasheet Link: https://datasheets.maximintegrated.com/en/ds/MAX9924-MAX9927.pdf; Height: 1.75mm; Mouser Part Number: 700-MAX9926UAEE; Mouser Price/Stock: https://www.mouser.co.uk/ProductDetail/Analog-Devices-Maxim-Integrated/MAX9926UAEE%2b?qs=CDqwynd4ZNrriQt4q8yT4w%3D%3D; Arrow Part Number: MAX9926UAEE+; Arrow Price/Stock: https://www.arrow.com/en/products/max9926uaee/maxim-integrated?region=nac
footprint SOP64P602X175-16N
pins: 1 IN_THRS1, 2 EX1, 3 BIAS1, 4 COUT1, 5 COUT2, 6 BIAS2, 7 EXT2, 8 INT_THRS2, 9 IN2+, 10 IN2-, 11 GND, 12 DIRN, 13 ZERO_EN, 14 VCC, 15 IN1-, 16 IN1+

## MAX44284FAUT+T
designator IC?
Integrated Circuit; Manufacturer_Name: Analog Devices; Manufacturer_Part_Number: MAX44284FAUT+T; Datasheet Link: https://datasheets.maximintegrated.com/en/ds/MAX44284.pdf; Height: 1.45mm; Arrow Part Number: MAX44284FAUT+T; Arrow Price/Stock: https://www.arrow.com/en/products/max44284fautt/analog-devices?region=nac
footprint SOT95P280X145-6N
pins: 1 VDD, 2 GND, 3 RS+, 4 RS-, 5 OUT, 6 ~{SHDN}

## MAX-F10S-00B
designator IC?
Integrated Circuit; Manufacturer_Name: u-blox; Manufacturer_Part_Number: MAX-F10S-00B; Datasheet Link: https://www.mouser.ph/ProductDetail/u-blox/MAX-F10S-00B?qs=By6Nw2ByBD2CW%252Biwf2Kjow%3D%3D; Height: 2.7mm
footprint MAXF10S00B (Footprint not found)
pins: 1 GND_1, 2 TXD, 3 RXD, 4 TIMEPULSE, 5 EXTINT, 6 V_BCKP, 7 V_IO, 8 VCC, 9 RESET_N, 10 GND_2, 11 RF_IN, 12 GND_3, 13 LNA_EN, 14 VCC_RF, 15 VIO_SEL, 16 SDA, 17 SCL, 18 SAFEBOOT_N

## MAX-M10M-00B
designator IC?
Integrated Circuit; Manufacturer_Name: u-blox; Manufacturer_Part_Number: MAX-M10M-00B; Datasheet Link: https://content.u-blox.com/sites/default/files/documents/MAX-M10M_IntegrationManual_UBX-22038241.pdf; Height: 2.7mm; Mouser Part Number: 377-MAX-M10M-00B; Mouser Price/Stock: https://www.mouser.co.uk/ProductDetail/u-blox/MAX-M10M-00B?qs=A6eO%252BMLsxmQGh8%2FJ1ZmexA%3D%3D
footprint MAXM10M00B
pins: 1 GND_1, 2 TXD, 3 RXD, 4 TIMEPULSE, 5 EXTINT, 6 V_BCKP, 7 V_IO, 8 VCC, 9 RESET_N, 10 GND_2, 11 RF_IN, 12 GND_3, 13 LNA_EN, 14 VCC_RF, 15 VIO_SEL, 16 SDA, 17 SCL, 18 SAFEBOOT_N

## MB810
designator D?
Schottky Diode; Manufacturer_Name: PANJIT; Manufacturer_Part_Number: MB810; Datasheet Link: https://www.panjit.com.tw/en/Product/downloadPDF/MB810; Height: 2.62mm
footprint DIOM7959X262N
pins: 1 K, 2 A

## MBR0540T1G
designator D?
Diode; Manufacturer_Name: onsemi; Manufacturer_Part_Number: MBR0540T1G; Datasheet Link: http://www.onsemi.com/pub/Collateral/MBR0540T1-D.PDF; Height: 1.35mm; Mouser Part Number: 863-MBR0540T1G; Mouser Price/Stock: https://www.mouser.co.uk/ProductDetail/onsemi/MBR0540T1G?qs=3JMERSakebqeY0cO5%252BUPCQ%3D%3D; Arrow Part Number: MBR0540T1G; Arrow Price/Stock: https://www.arrow.com/en/products/mbr0540t1g/on-semiconductor?region=nac
footprint SOD3716X135N
pins: 1, 2 12

## MBR16200CT
designator D?
Schottky Diode; Manufacturer_Name: PANJIT; Manufacturer_Part_Number: MBR16200CT; Datasheet Link: https://www.panjit.com.tw/en/Product/downloadPDF/MBR16200CT; Height: 5mm
footprint TO254P500X1026X2147-3P
pins: 1 A_1, 2 K, 3 A_2

## MC4558CD
designator IC?
Integrated Circuit; Manufacturer_Name: STMicroelectronics; Manufacturer_Part_Number: MC4558CD; Datasheet Link: https://componentsearchengine.com/Datasheets/2/MC4558CD.pdf; Height: 1.75mm; Mouser Part Number: 511-MC4558CD; Mouser Price/Stock: https://www.mouser.co.uk/ProductDetail/STMicroelectronics/MC4558CD?qs=vqk%252BPKT8fSwaXkSAspcf7w%3D%3D; Arrow Part Number: MC4558CD; Arrow Price/Stock: https://www.arrow.com/en/products/mc4558cd/stmicroelectronics
footprint SOIC127P600X175-8N
pins: 1 OUT1, 2 IN1(-), 3 IN1(+), 4 VCC-, 5 IN2(+), 6 IN2(-), 7 OUT2, 8 VCC+

## MC33063AD
designator IC?
Integrated Circuit; Manufacturer_Name: Texas Instruments; Manufacturer_Part_Number: MC33063AD; Datasheet Link: http://www.ti.com/lit/gpn/mc33063a; Height: 1.75mm; Mouser Part Number: 595-MC33063AD; Mouser Price/Stock: https://www.mouser.co.uk/ProductDetail/Texas-Instruments/MC33063AD?qs=paYhMW8qfisiajeCWlaWEQ%3D%3D; Arrow Part Number: MC33063AD; Arrow Price/Stock: https://www.arrow.com/en/products/mc33063ad/texas-instruments?region=nac
footprint SOIC127P600X175-8N
pins: 1 SWITCH_COLLECTOR, 2 SWITCH_EMITTER, 3 TIMING_CAPACITOR, 4 GND, 5 COMPARATOR_INVERTING_INPUT, 6 VCC, 7 IPK, 8 DRIVER_COLLECTOR

## MC34063ADR2G
designator IC?
Integrated Circuit; Manufacturer_Name: onsemi; Manufacturer_Part_Number: MC34063ADR2G; Datasheet Link: https://www.onsemi.com/pub/Collateral/MC34063A-D.PDF; Height: 1.75mm; Mouser Part Number: 863-MC34063ADR2G; Mouser Price/Stock: https://www.mouser.co.uk/ProductDetail/onsemi/MC34063ADR2G?qs=dFKnUM%2FquJbf5lc6maZo6Q%3D%3D; Arrow Part Number: MC34063ADR2G; Arrow Price/Stock: https://www.arrow.com/en/products/mc34063adr2g/on-semiconductor?region=nac
footprint SOIC127P600X175-8N
pins: 1 SC, 2 SE, 3 CT, 4 GND, 5 FB, 6 VCC, 7 IPK, 8 DC

## MC34119D
designator IC?
Integrated Circuit; Manufacturer_Name: onsemi; Manufacturer_Part_Number: MC34119D; Height: 1.75mm
footprint SOIC127P600X175-8N
pins: 1 CD, 2 FC2, 3 FC1, 4 VIN, 5 VO1, 6 VCC, 7 GND, 8 VO2

## MC-406_32.7680K-A0_ROHS
designator Y?
Crystal or Oscillator; Manufacturer_Name: Epson Timing; Manufacturer_Part_Number: MC-406 32.7680K-A0:ROHS; Datasheet Link: https://componentsearchengine.com/Datasheets/1/MC-406 32.7680K-A0_ROHS.pdf; Height: 3.6mm; Mouser Part Number: 732-MC406-32.7KA0R; Mouser Price/Stock: https://www.mouser.co.uk/ProductDetail/Epson-Timing/MC-406-32.7680K-A0ROHS?qs=CU9taR8hkvYYgurnXSUAFA%3D%3D; Arrow Part Number: MC-406 32.7680K-A0:ROHS; Arrow Price/Stock: https://www.arrow.com/en/products/mc-406-32.7680k-a0rohs/epson-electronics-america
footprint MC406327680KA0ROHS
pins: 1 IN, 2 GND_1, 3 GND_2, 4 OUT

## MCP2515-I_SO
designator IC?
Integrated Circuit; Manufacturer_Name: Microchip; Manufacturer_Part_Number: MCP2515-I/SO; Datasheet Link: https://datasheet.datasheetarchive.com/originals/distributors/Datasheets-34/DSA-675138.pdf; Height: 2.65mm; Mouser Part Number: 579-MCP2515-I/SO; Mouser Price/Stock: https://www.mouser.co.uk/ProductDetail/Microchip-Technology/MCP2515-I-SO?qs=KwArPi4cUogGDbGnphOvtQ%3D%3D; Arrow Part Number: MCP2515-I/SO; Arrow Price/Stock: https://www.arrow.com/en/products/mcp2515-iso/microchip-technology?utm_currency=USD&region=europe
footprint SOIC127P1030X265-18N
pins: 1 TXCAN, 2 RXCAN, 3 CLKOUT/SOF, 4 ~{TX0RTS}, 5 ~{TX1RTS}, 6 ~{TX2RTS}, 7 OSC2, 8 OSC1, 9 VSS, 10 ~{RX1BF}, 11 ~{RX0BF}, 12 ~{INT}, 13 SCK, 14 SI, 15 SO, 16 ~{CS}, 17 ~{RESET}, 18 VDD

## MCP3428-E_SL
designator IC?
Integrated Circuit; Manufacturer_Name: Microchip; Manufacturer_Part_Number: MCP3428-E/SL; Datasheet Link: https://datasheet.datasheetarchive.com/originals/distributors/Datasheets-DGA17/1031155.pdf; Height: 1.75mm; Mouser Part Number: 579-MCP3428E/SL; Mouser Price/Stock: https://www.mouser.co.uk/ProductDetail/Microchip-Technology/MCP3428-E-SL?qs=icxrp76fIjD%2FAq4p7ExZpg%3D%3D; Arrow Part Number: MCP3428-E/SL; Arrow Price/Stock: https://www.arrow.com/en/products/mcp3428-esl/microchip-technology?region=nac
footprint SOIC127P600X175-14N
pins: 1 CH1+, 2 CH1-, 3 CH2+, 4 CH2-, 5 VSS, 6 VDD, 7 SDA, 8 SCL, 9 ADR0, 10 ADR1, 11 CH3+, 12 CH3-, 13 CH4+, 14 CH4-

## MCP6001T-E/LT
designator IC?
Integrated Circuit; Manufacturer_Name: Microchip; Manufacturer_Part_Number: MCP6001T-E/LT; Datasheet Link: https://datasheet.datasheetarchive.com/originals/distributors/SFDatasheet-4/sf-00090086.pdf; Height: 1.1mm; Mouser Part Number: 579-MCP6001T-E/LT; Mouser Price/Stock: https://www.mouser.co.uk/ProductDetail/Microchip-Technology/MCP6001T-E-LT?qs=npqfqDPP3%2FyPEQJ8celGXw%3D%3D; Arrow Part Number: MCP6001T-E/LT; Arrow Price/Stock: https://www.arrow.com/en/products/mcp6001t-elt/microchip-technology?region=nac
footprint SOT65P210X110-5N
part A pins: 1 1OUT, 3 1IN+, 4 1IN-
part B pins: 2 VSS, 5 VDD

## MCP6001T-E/OT
designator IC?
IC OPAMP R2R GP 1 CIRCUIT SOT23-5; Manufacturer_Name: Microchip; Manufacturer_Part_Number: MCP6001T-E/LT; Datasheet Link: https://datasheet.datasheetarchive.com/originals/distributors/SFDatasheet-4/sf-00090086.pdf; Height: 1.1mm; Mouser Part Number: 579-MCP6001T-E/LT; Mouser Price/Stock: https://www.mouser.co.uk/ProductDetail/Microchip-Technology/MCP6001T-E-LT?qs=npqfqDPP3%2FyPEQJ8celGXw%3D%3D; Arrow Part Number: MCP6001T-E/LT; Arrow Price/Stock: https://www.arrow.com/en/products/mcp6001t-elt/microchip-technology?region=nac
footprint SOT95P270X145-5N
part A pins: 1 1OUT, 3 1IN+, 4 1IN-
part B pins: 2 VSS, 5 VDD

## MCP6002-E/MS
designator IC?
Integrated Circuit, OP Amp; Manufacturer_Name: Microchip; Manufacturer_Part_Number: MCP6002-E/MS; Datasheet Link: https://datasheet.datasheetarchive.com/originals/distributors/Datasheets-304/55313.pdf; Height: 1.1mm; Mouser Part Number: 579-MCP6002-E/MS; Mouser Price/Stock: https://www.mouser.co.uk/ProductDetail/Microchip-Technology-Atmel/MCP6002-E-MS?qs=huzeVNXgovXv0kPjGdVLUA%3D%3D; Arrow Part Number: MCP6002-E/MS; Arrow Price/Stock: https://www.arrow.com/en/products/mcp6002-ems/microchip-technology?region=europe
footprint SOP65P490X110-8N
part A pins: 1 VOUTA, 2 VINA-, 3 VINA+
part B pins: 5 VINB+, 6 VINB-, 7 VOUT_B
part C pins: 4 VSS, 8 VDD

## MCP6002-E_SN
designator IC?
Integrated Circuit; Manufacturer_Name: Microchip; Manufacturer_Part_Number: MCP6002-E/SN; Datasheet Link: https://datasheet.datasheetarchive.com/originals/distributors/Datasheets-DGA24/1612149.pdf; Height: 1.75mm; Mouser Part Number: 579-MCP6002-E/SN; Mouser Price/Stock: https://www.mouser.co.uk/ProductDetail/Microchip-Technology/MCP6002-E-SN?qs=huzeVNXgovUiJ9mzyA%252B5pA%3D%3D; Arrow Part Number: MCP6002-E/SN; Arrow Price/Stock: https://www.arrow.com/en/products/mcp6002-esn/microchip-technology?region=nac
footprint SOIC127P600X175-8N
pins: 1 VOUTA, 2 VINA-, 3 VINA+, 4 VSS, 5 VINB+, 6 VINB-, 7 VOUT_B, 8 VDD

## MCP6002-I/SN
designator IC?
Integrated Circuit, OP Amp; Manufacturer_Name: Microchip; Manufacturer_Part_Number: MCP6002-E/MS; Datasheet Link: https://datasheet.datasheetarchive.com/originals/distributors/Datasheets-304/55313.pdf; Height: 1.1mm; Mouser Part Number: 579-MCP6002-E/MS; Mouser Price/Stock: https://www.mouser.co.uk/ProductDetail/Microchip-Technology-Atmel/MCP6002-E-MS?qs=huzeVNXgovXv0kPjGdVLUA%3D%3D; Arrow Part Number: MCP6002-E/MS; Arrow Price/Stock: https://www.arrow.com/en/products/mcp6002-ems/microchip-technology?region=europe
footprint SOIC127P600X170-8N
part A pins: 1 VOUTA, 2 VINA-, 3 VINA+
part B pins: 5 VINB+, 6 VINB-, 7 VOUT_B
part C pins: 4 VSS, 8 VDD

## MCP6004-I/SL
designator IC?
IC OP AMP 4CH R2R +3.3-5V; Manufacturer_Name: Microchip; Datasheet Link: https://datasheet.datasheetarchive.com/originals/distributors/Datasheets-DGA24/1612149.pdf; Height: 1.75mm; Manufacturer_Part_Number: MCP6004-I/SL; Mouser Part Number: 579-MCP6004-I/SL; Mouser Price/Stock: https://www.mouser.co.uk/ProductDetail/Microchip-Technology/MCP6004-I-SL?qs=n%2FfJlMG9rCZ2%2F%2FCryvZ52w%3D%3D; Arrow Part Number: MCP6004-I/SL; Arrow Price/Stock: https://www.arrow.com/en/products/mcp6004-isl/microchip-technology?region=nac
footprint SOIC127P600X175-14N
part A pins: 1 VOUTA, 2 VINA-, 3 VINA+
part B pins: 5 VINB+, 6 VINB-, 7 VOUTB
part C pins: 8 VOUTC, 9 VINC-, 10 VINC+
part D pins: 12 VIND+, 13 VIND-, 14 VOUTD
part E pins: 4 VDD, 11 VSS

## MCP23008-E_SO
designator IC?
Integrated Circuit; Manufacturer_Name: Microchip; Manufacturer_Part_Number: MCP23008-E/SO; Datasheet Link: https://datasheet.datasheetarchive.com/originals/distributors/SFDatasheet-4/sf-00090055.pdf; Height: 2.65mm; Mouser Part Number: 579-MCP23008-E/SO; Mouser Price/Stock: https://www.mouser.co.uk/ProductDetail/Microchip-Technology/MCP23008-E-SO?qs=Sez7gRs8XSWum74ZwQXTLw%3D%3D; Arrow Part Number: MCP23008-E/SO; Arrow Price/Stock: https://www.arrow.com/en/products/mcp23008-eso/microchip-technology?region=nac
footprint SOIC127P1030X265-18N
pins: 1 SCL, 2 SDA, 3 A2, 4 A1, 5 A0, 6 ~{RESET}, 7 NC, 8 INT, 9 VSS, 10 GP0, 11 GP1, 12 GP2, 13 GP3, 14 GP4, 15 GP5, 16 GP6, 17 GP7, 18 VDD

## MCP23008-E_SS
designator IC?
IC XPNDR 1.7MHZ I2C 20SSOP; Manufacturer_Name: Microchip; Manufacturer_Part_Number: MCP23008-E/SS; Datasheet Link: https://datasheet.datasheetarchive.com/originals/distributors/SFDatasheet-4/sf-00090055.pdf; Height: 2mm; Mouser Part Number: 579-MCP23008-E/SS; Mouser Price/Stock: https://www.mouser.co.uk/ProductDetail/Microchip-Technology/MCP23008-E-SS?qs=Sez7gRs8XSU%2FXF8up%2FiqvA%3D%3D; Arrow Part Number: MCP23008-E/SS; Arrow Price/Stock: https://www.arrow.com/en/products/mcp23008-ess/microchip-technology?region=nac
footprint SOP65P780X200-20N
pins: 1 SCL, 2 SDA, 3 A2, 4 A1, 5 A0, 6 ~{RESET}, 7 NC, 8 INT, 9 VSS, 10 N/C_1, 11 N/C_2, 12 GP0, 13 GP1, 14 GP2, 15 GP3, 16 GP4, 17 GP5, 18 GP6, 19 GP7, 20 VDD

## MCP23017-E_SO
designator IC?
Integrated Circuit; Manufacturer_Name: Microchip; Manufacturer_Part_Number: MCP23017-E/SO; Datasheet Link: https://datasheet.datasheetarchive.com/originals/distributors/SFDatasheet-4/sf-00090057.pdf; Height: 2.65mm; Mouser Part Number: 579-MCP23017-E/SO; Mouser Price/Stock: https://www.mouser.co.uk/ProductDetail/Microchip-Technology/MCP23017-E-SO?qs=usxtMOJb1Rz8hft7vV7YMQ%3D%3D; Arrow Part Number: MCP23017-E/SO; Arrow Price/Stock: https://www.arrow.com/en/products/mcp23017-eso/microchip-technology.html?utm_currency=USD&region=nac
footprint SOIC127P1030X265-28N
pins: 1 GPB0, 2 GPB1, 3 GPB2, 4 GPB3, 5 GPB4, 6 GPB5, 7 GPB6, 8 GPB7, 9 VDD, 10 VSS, 11 NC_1, 12 SCL, 13 SDA, 14 NC_2, 15 A0, 16 A1, 17 A2, 18 ~{RESET}, 19 INTB, 20 INTA, 21 GPA0, 22 GPA1, 23 GPA2, 24 GPA3, 25 GPA4, 26 GPA5, 27 GPA6, 28 GPA7